# EAGLE library part FL7733A (library fairchild-fl7733a)
The FL7733A is a highly-integrated PWM controller with advanced Primary-Side Regulation (PSR) technique to minimize components in low-to-mid-power LED lighting converters. The library has been designed by Richard Magdycz <https://www.facebook.com/groups/eaglecadsoftUK>
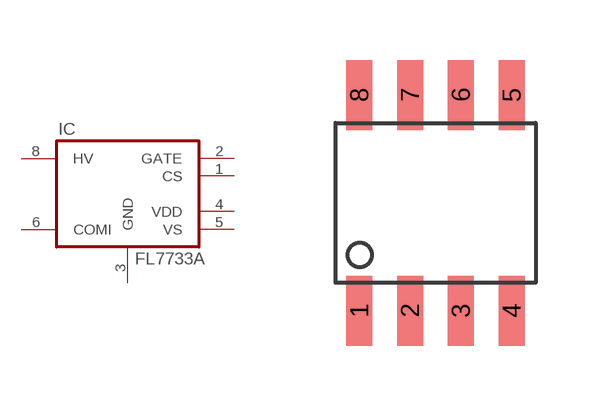
[diagram p0: symbol with the pads of SOP08; footprint SOP08]

Designator prefix IC

## FL7733A  [SOP08]
1  CS  in
2  GATE  out
3  GND  pwr
4  VDD  pwr
5  VS  in
6  COMI
8  HV  pwr

## Footprint SOP08 (pad centres in mm)
SMALL OUTLINE PACKAGE
smd 0.65 x 1.75: 1 -1.905,-2.7; 2 -0.635,-2.7; 3 0.635,-2.7; 4 1.905,-2.7; 5 1.905,2.7; 6 0.635,2.7; 7 -0.635,2.7; 8 -1.905,2.7